# EAGLE library part M74HC595B1 (library air_quality_parts)
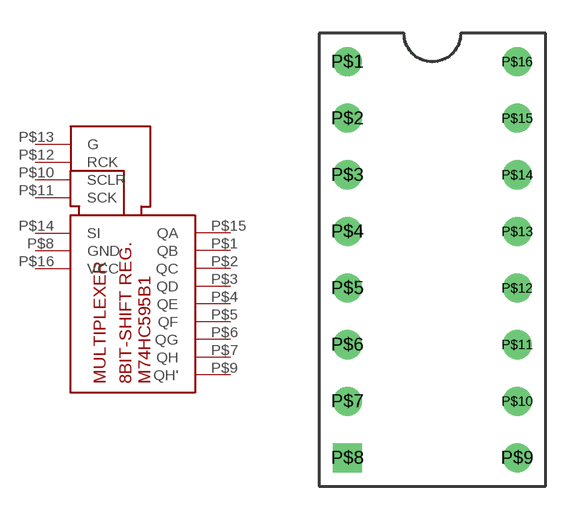
[diagram p7: symbol with the pads of 16DIP; footprint 16DIP]

Designator prefix -

## M74HC595B1  [16DIP]
P$1  QB
P$2  QC
P$3  QD
P$4  QE
P$5  QF
P$6  QG
P$7  QH
P$8  GND
P$9  QH'
P$10  SCLR
P$11  SCK
P$12  RCK
P$13  G
P$14  SI
P$15  QA
P$16  VCC

## Footprint 16DIP (pad centres in mm)
drill 0.8: P$1 -5.08,7.62; P$2 -5.08,5.08; P$3 -5.08,2.54; P$4 -5.08,0; P$5 -5.08,-2.54; P$6 -5.08,-5.08; P$7 -5.08,-7.62; P$9 2.54,-10.16; P$10 2.54,-7.62; P$11 2.54,-5.08; P$12 2.54,-2.54; P$13 2.54,0; P$14 2.54,2.54; P$15 2.54,5.08; P$16 2.54,7.62
drill 0.8 square: P$8 -5.08,-10.16